# EAGLE library part DAC7564 (library 04_IC)
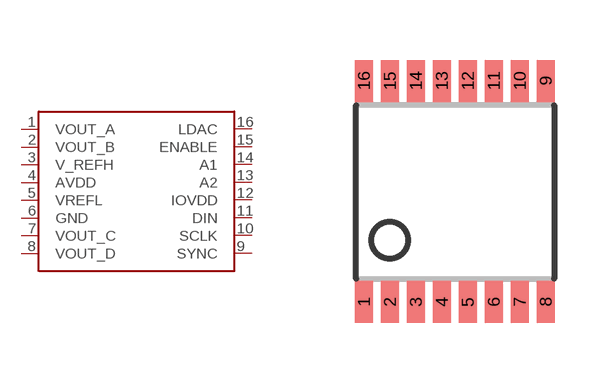
[diagram p12: symbol with the pads of TSSOP16; footprint TSSOP16]

Designator prefix -

## DAC7564  [TSSOP16]
1  VOUT_A
2  VOUT_B
3  V_REFH
4  AVDD
5  VREFL
6  GND
7  VOUT_C
8  VOUT_D
9  SYNC
10  SCLK
11  DIN
12  IOVDD
13  A2
14  A1
15  ENABLE
16  LDAC

## Footprint TSSOP16 (pad centres in mm)
16-Lead Plastic TSSOP (4.4mm) http://cds.linear.com/docs/Datasheet/1963fc.pdf
smd 0.45 x 1.05: 1 -2.275,-2.768; 2 -1.625,-2.768; 3 -0.975,-2.768; 4 -0.325,-2.768; 5 0.325,-2.768; 6 0.975,-2.768; 7 1.625,-2.768; 8 2.275,-2.768; 9 2.275,2.768; 10 1.625,2.768; 11 0.975,2.768; 12 0.325,2.768; 13 -0.325,2.768; 14 -0.975,2.768; 15 -1.625,2.768; 16 -2.275,2.768